# Altium schematic symbol library MOC.SchLib: 1 symbol
Pins are listed as number, name and electrical type; pins without a type are passive.

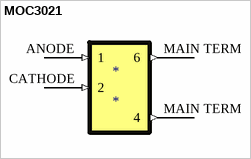
[diagram p0: symbol MOC3021]

## MOC3021
designator *
footprint DIP6; pin to pad ANODE>1 CATHODE>2 MAIN TERM>4
pins: ANODE 1 (in), CATHODE 2 (in), MAIN TERM 6 (out), MAIN TERM 4 (out)